# EAGLE library part WE-LAN_10G_749053010 (library WE-LAN_10G)
WE-LAN 10G Transformer 10Gbit Base-T Characteristics Power over Ethernet up to 150 Watts and speeds up to 10 Gbit/s Available in SMD Compliant with standards: IEEE 802.3an, IEEE 802.3af, IEEE 802.3at and upcoming IEEE 802.3bt Applications Suitable for industrial temperatures from –40 °C up to +85 °C Compatible to Industrial Ethernet systems like EtherCAT or Profinet Compliant with most IC’s for Ethernet applications such as Microchip, Texas Instruments, Broadcom, Linear Technology Hubs, Routers, Switches, IP cameras, IoT applications HDBaseT <https://katalog.we-online.com/media/images/v2/o84657v209%20WE-LAN_749050010-749052012_4C%20-%20Kopie.jpg> Details see: https://katalog.we-online.com/en/pbs/WE-LAN-10G Updated by Ella Wu 2019-07-22 2019 (C) Würth Elektronik
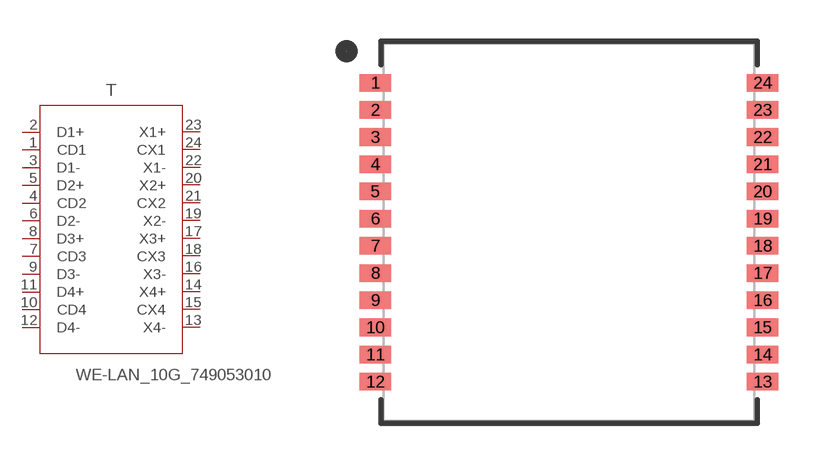
[diagram p3: symbol with the pads of WE-LAN_10G_749053010; footprint WE-LAN_10G_749053010]

Designator prefix T

## WE-LAN_10G_749053010 (DATA-RATE: 10G Base-T; DATASHEET-URL: https://katalog.we-online.com/pbs/datasheet/749053010.pdf; HPLE: No; L: 120uH; MOUNT: SMT; PART-NUMBER: 749053010; POE: PoE (up to 350 mA); PORTS: 1; VT: 1500 V (RMS))  [WE-LAN_10G_749053010]
1  CD1
2  D1+
3  D1-
4  CD2
5  D2+
6  D2-
7  CD3
8  D3+
9  D3-
10  CD4
11  D4+
12  D4-
13  X4-
14  X4+
15  CX4
16  X3-
17  X3+
18  CX3
19  X2-
20  X2+
21  CX2
22  X1-
23  X1+
24  CX1

## Footprint WE-LAN_10G_749053010 (pad centres in mm)
WE-LAN 10G Transformer 10Gbit Base-T
smd 1.14 x 0.64: 1 -7.05,5.445; 2 -7.05,4.455; 3 -7.05,3.465; 4 -7.05,2.475; 5 -7.05,1.485; 6 -7.05,0.495; 7 -7.05,-0.495; 8 -7.05,-1.485; 9 -7.05,-2.475; 10 -7.05,-3.465; 11 -7.05,-4.455; 12 -7.05,-5.445; 13 7.05,-5.445; 14 7.05,-4.455; 15 7.05,-3.465; 16 7.05,-2.475; 17 7.05,-1.485; 18 7.05,-0.495; 19 7.05,0.495; 20 7.05,1.485; 21 7.05,2.475; 22 7.05,3.465; 23 7.05,4.455; 24 7.05,5.445